# Altium integrated library Micron Memory PSRAM-CellularRAM.IntLib: 9 symbols (part 2 of 2)
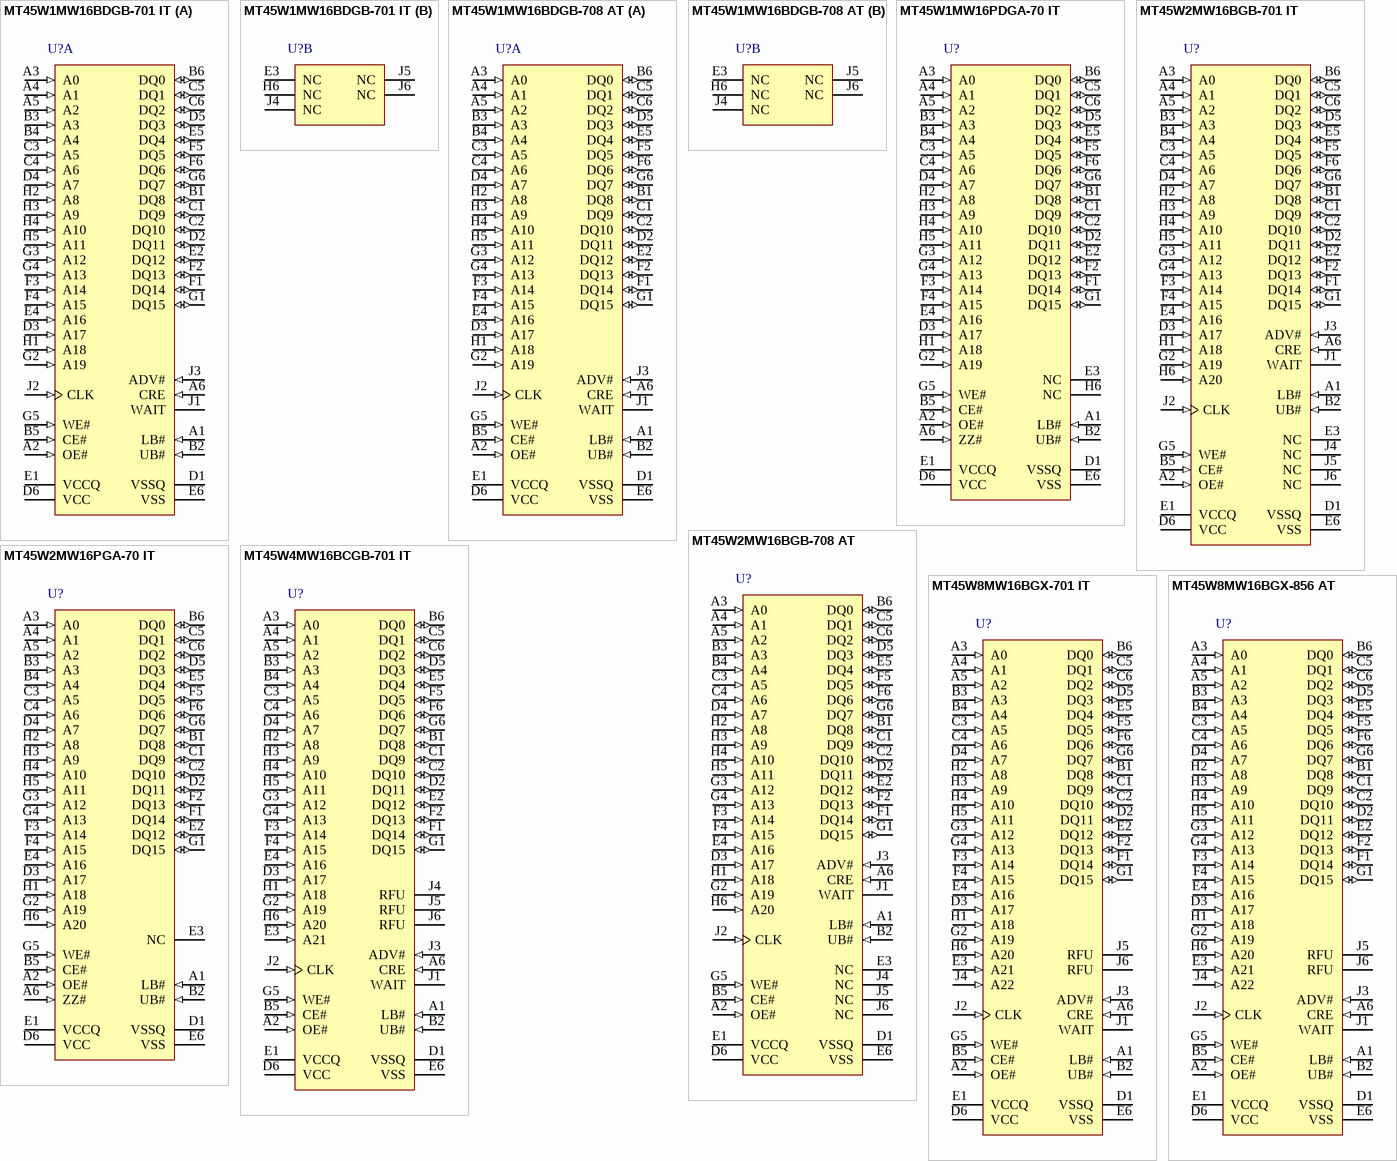
[diagram p1: symbols MT45W1MW16BDGB-701 IT to MT45W8MW16BGX-856 AT]

## MT45W4MW16BCGB-701 IT
designator U?
64Mb PSRAM Celluar RAM, 4Mb x 16, 70ns, 1.7V - 3.3V, -40 to 85 degC, 54-Ball VFBGA, Pb-Free; Manufacturer: Micron; PartNumber: MT45W4MW16BCGB-701 IT; Core Voltage: 1.7V-1.95V; Op. Temp.: -40C to +85C; Read/Write Mode: Async/Page/Burst; DatasheetVersion: Rev.F; PackageVersion: Rev.F; PackageReference: MICT-GB-54; PackageDescription: 54-Ball Very Thin Profile Fine-Pitch Ball Grid Array, 8 x 6 mm, Pitch 0.75 mm; Access Time: 70ns; Density: 64Mb; Depth: 4Mb; I/O Voltage: 1.7V-3.3V; Package: VFBGA; Part Status: Production; Pin Count: 54-ball; RoHS: Green; Width: x16; Mounting Technology: Surface Mount; ComponentLink1Description: Manufacturer URL; ComponentLink1URL: http://www.micron.com/; ComponentLink2Description: Datasheet; ComponentLink2URL: http://www.micron.com/~/media/Documents/Products/Data%20Sheet/DRAM/Mobile%20DRAM/PSRAM/64Mb_burst_cr1_5_p25z.pdf; ComponentLink3Description: Package Specification; ComponentLink3URL: http://www.micron.com/~/media/Documents/Products/Data%20Sheet/DRAM/Mobile%20DRAM/PSRAM/64Mb_burst_cr1_5_p25z.pdf
footprint MICT-GB-54 (BGA, 54-Balls, Body 8x6mm, Pitch 0.75mm)
pins: A1 LB# (in) "Lower byte enable. DQ[7:0]", A2 OE# (in) "Output enable: Enables the output buffers when LOW. When OE# is HIGH, the  output buffers are disabled.", A3 A0 (in) "Address inputs: Inputs for addresses during READ and WRITE operations.Addresses are internally latched during READ and WRITE cycles. The address lines are also used to define the value to be loaded into the BCR or the RCR.", A4 A1 (in) "Address inputs: Inputs for addresses during READ and WRITE operations.Addresses are internally latched during READ and WRITE cycles. The address lines are also used to define the value to be loaded into the BCR or the RCR.", A5 A2 (in) "Address inputs: Inputs for addresses during READ and WRITE operations.Addresses are internally latched during READ and WRITE cycles. The address lines are also used to define the value to be loaded into the BCR or the RCR.", A6 CRE (in) "Control register enable: When CRE is HIGH, WRITE operations load the RCR or BCR, and READ operations access the RCR, BCR, or DIDR.", B1 DQ8 (io) "Data inputs/outputs.", B2 UB# (in) "Upper byte enable. DQ[15:8]", B3 A3 (in) "Address inputs: Inputs for addresses during READ and WRITE operations.Addresses are internally latched during READ and WRITE cycles. The address lines are also used to define the value to be loaded into the BCR or the RCR.", B4 A4 (in) "Address inputs: Inputs for addresses during READ and WRITE operations.Addresses are internally latched during READ and WRITE cycles. The address lines are also used to define the value to be loaded into the BCR or the RCR.", B5 CE# (in) "Chip enable: Activates the device when LOW. When CE# is HIGH, the device is disabled and goes into standby or DPD mode.", B6 DQ0 (io) "Data inputs/outputs.", C1 DQ9 (io) "Data inputs/outputs.", C2 DQ10 (io) "Data inputs/outputs.", C3 A5 (in) "Address inputs: Inputs for addresses during READ and WRITE operations.Addresses are internally latched during READ and WRITE cycles. The address lines are also used to define the value to be loaded into the BCR or the RCR.", C4 A6 (in) "Address inputs: Inputs for addresses during READ and WRITE operations.Addresses are internally latched during READ and WRITE cycles. The address lines are also used to define the value to be loaded into the BCR or the RCR.", C5 DQ1 (io) "Data inputs/outputs.", C6 DQ2 (io) "Data inputs/outputs.", D1 VSSQ (power) "VSSQ must be connected to ground.", D2 DQ11 (io) "Data inputs/outputs.", D3 A17 (in) "Address inputs: Inputs for addresses during READ and WRITE operations.Addresses are internally latched during READ and WRITE cycles. The address lines are also used to define the value to be loaded into the BCR or the RCR.", D4 A7 (in) "Address inputs: Inputs for addresses during READ and WRITE operations.Addresses are internally latched during READ and WRITE cycles. The address lines are also used to define the value to be loaded into the BCR or the RCR.", D5 DQ3 (io) "Data inputs/outputs.", D6 VCC (power) "Device power supply (1.7-1.95V): Power supply for device core operation.", E1 VCCQ (power) "I/O power supply (1.7-3.3V): Power supply for input/output buffers.", E2 DQ12 (io) "Data inputs/outputs.", E3 A21 (in) "Address inputs: Inputs for addresses during READ and WRITE operations.Addresses are internally latched during READ and WRITE cycles. The address lines are also used to define the value to be loaded into the BCR or the RCR.", E4 A16 (in) "Address inputs: Inputs for addresses during READ and WRITE operations.Addresses are internally latched during READ and WRITE cycles. The address lines are also used to define the value to be loaded into the BCR or the RCR.", E5 DQ4 (io) "Data inputs/outputs.", E6 VSS (power) "VSS must be connected to ground.", F1 DQ14 (io) "Data inputs/outputs.", F2 DQ13 (io) "Data inputs/outputs.", F3 A14 (in) "Address inputs: Inputs for addresses during READ and WRITE operations.Addresses are internally latched during READ and WRITE cycles. The address lines are also used to define the value to be loaded into the BCR or the RCR.", F4 A15 (in) "Address inputs: Inputs for addresses during READ and WRITE operations.Addresses are internally latched during READ and WRITE cycles. The address lines are also used to define the value to be loaded into the BCR or the RCR.", F5 DQ5 (io) "Data inputs/outputs.", F6 DQ6 (io) "Data inputs/outputs.", G1 DQ15 (io) "Data inputs/outputs.", G2 A19 (in) "Address inputs: Inputs for addresses during READ and WRITE operations.Addresses are internally latched during READ and WRITE cycles. The address lines are also used to define the value to be loaded into the BCR or the RCR.", G3 A12 (in) "Address inputs: Inputs for addresses during READ and WRITE operations.Addresses are internally latched during READ and WRITE cycles. The address lines are also used to define the value to be loaded into the BCR or the RCR.", G4 A13 (in) "Address inputs: Inputs for addresses during READ and WRITE operations.Addresses are internally latched during READ and WRITE cycles. The address lines are also used to define the value to be loaded into the BCR or the RCR.", G5 WE# (in) "Write enable: Determines whether a given cycle is a WRITE cycle. If WE# is LOW, the cycle is a WRITE either to a configuration register or to the memory array.", G6 DQ7 (io) "Data inputs/outputs.", H1 A18 (in) "Address inputs: Inputs for addresses during READ and WRITE operations.Addresses are internally latched during READ and WRITE cycles. The address lines are also used to define the value to be loaded into the BCR or the RCR.", H2 A8 (in) "Address inputs: Inputs for addresses during READ and WRITE operations.Addresses are internally latched during READ and WRITE cycles. The address lines are also used to define the value to be loaded into the BCR or the RCR.", H3 A9 (in) "Address inputs: Inputs for addresses during READ and WRITE operations.Addresses are internally latched during READ and WRITE cycles. The address lines are also used to define the value to be loaded into the BCR or the RCR.", H4 A10 (in) "Address inputs: Inputs for addresses during READ and WRITE operations.Addresses are internally latched during READ and WRITE cycles. The address lines are also used to define the value to be loaded into the BCR or the RCR.", H5 A11 (in) "Address inputs: Inputs for addresses during READ and WRITE operations.Addresses are internally latched during READ and WRITE cycles. The address lines are also used to define the value to be loaded into the BCR or the RCR.", H6 A20 (in) "Address inputs: Inputs for addresses during READ and WRITE operations.Addresses are internally latched during READ and WRITE cycles. The address lines are also used to define the value to be loaded into the BCR or the RCR.", J1 WAIT (hiz) "Wait: Provides data-valid feedback during burst READ and WRITE operations. The signal is gated by CE#. WAIT is used to arbitrate collisions between refresh and READ/WRITE operations. WAIT is asserted at the end of a row (See Datasheet)", J2 CLK (in) "Clock: Synchronizes the memory to the system operating frequency during synchronous operations. When configured for synchronous operation, the address is latched on the first rising CLK edge when ADV# is active. CLK must be (See Datasheet)", J3 ADV# (in) "Address valid: Indicates that a valid address is present on the address inputs.Addresses can be latched on the rising edge of ADV# during asynchronous READ and WRITE operations. ADV# can be held LOW during asynchronous READ (See Datasheet)", J4 RFU "Reserved for future use.", J5 RFU "Reserved for future use.", J6 RFU "Reserved for future use."

## MT45W8MW16BGX-701 IT
designator U?
128Mb PSRAM Celluar RAM, 8Mb x 16, 70ns, 1.7V - 3.6V, -40 to 85 degC, 54-Ball VFBGA, Pb-Free; Manufacturer: Micron; PartNumber: MT45W8MW16BGX-701 IT; Core Voltage: 1.7V-1.95V; Op. Temp.: -40C to +85C; Read/Write Mode: Async/Page/Burst; DatasheetVersion: Rev. H; PackageVersion: Rev.H; PackageReference: MICT-GX-54; PackageDescription: 54-Ball Very Thin Profile Fine-Pitch Ball Grid Array, 10 x 8 mm, Pitch 0.75 mm; Access Time: 70ns; Density: 128Mb; Depth: 8Mb; I/O Voltage: 1.7V-3.6V; Package: VFBGA; Part Status: Production; Pin Count: 54-ball; RoHS: Green; Width: x16; Mounting Technology: Surface Mount; ComponentLink1Description: Manufacturer URL; ComponentLink1URL: http://www.micron.com/; ComponentLink2Description: Datasheet; ComponentLink2URL: http://www.micron.com/~/media/Documents/Products/Data%20Sheet/DRAM/Mobile%20DRAM/PSRAM/128mb_burst_cr1_5_p26z.pdf; ComponentLink3Description: Package Specification; ComponentLink3URL: http://www.micron.com/~/media/Documents/Products/Data%20Sheet/DRAM/Mobile%20DRAM/PSRAM/128mb_burst_cr1_5_p26z.pdf
footprint MICT-GX-54 (BGA, 54-Balls, Body 10x8mm, Pitch 0.75mm)
pins: A1 LB# (in) "Lower byte enable. DQ[7:0]", A2 OE# (in) "Output enable: Enables the output buffers when LOW. When OE# is HIGH,the output buffers are disabled.", A3 A0 (in) "Address inputs: Inputs for addresses during READ and WRITE operations.Addresses are internally latched during READ and WRITE cycles. The address lines are also used to define the value to be loaded into the BCR or the RCR.", A4 A1 (in) "Address inputs: Inputs for addresses during READ and WRITE operations.Addresses are internally latched during READ and WRITE cycles. The address lines are also used to define the value to be loaded into the BCR or the RCR.", A5 A2 (in) "Address inputs: Inputs for addresses during READ and WRITE operations.Addresses are internally latched during READ and WRITE cycles. The address lines are also used to define the value to be loaded into the BCR or the RCR.", A6 CRE (in) "Control register enable: When CRE is HIGH, WRITE operations load the RCR or BCR, and READ operations access the RCR, BCR, or DIDR.", B1 DQ8 (io) "Data inputs/outputs.", B2 UB# (in) "Upper byte enable. DQ[15:8]", B3 A3 (in) "Address inputs: Inputs for addresses during READ and WRITE operations.Addresses are internally latched during READ and WRITE cycles. The address lines are also used to define the value to be loaded into the BCR or the RCR.", B4 A4 (in) "Address inputs: Inputs for addresses during READ and WRITE operations.Addresses are internally latched during READ and WRITE cycles. The address lines are also used to define the value to be loaded into the BCR or the RCR.", B5 CE# (in) "Chip enable: Activates the device when LOW. When CE# is HIGH, the device is disabled and goes into standby or deep power-down mode.", B6 DQ0 (io) "Data inputs/outputs.", C1 DQ9 (io) "Data inputs/outputs.", C2 DQ10 (io) "Data inputs/outputs.", C3 A5 (in) "Address inputs: Inputs for addresses during READ and WRITE operations.Addresses are internally latched during READ and WRITE cycles. The address lines are also used to define the value to be loaded into the BCR or the RCR.", C4 A6 (in) "Address inputs: Inputs for addresses during READ and WRITE operations.Addresses are internally latched during READ and WRITE cycles. The address lines are also used to define the value to be loaded into the BCR or the RCR.", C5 DQ1 (io) "Data inputs/outputs.", C6 DQ2 (io) "Data inputs/outputs.", D1 VSSQ (power) "VSSQ must be connected to ground.", D2 DQ11 (io) "Data inputs/outputs.", D3 A17 (in) "Address inputs: Inputs for addresses during READ and WRITE operations.Addresses are internally latched during READ and WRITE cycles. The address lines are also used to define the value to be loaded into the BCR or the RCR.", D4 A7 (in) "Address inputs: Inputs for addresses during READ and WRITE operations.Addresses are internally latched during READ and WRITE cycles. The address lines are also used to define the value to be loaded into the BCR or the RCR.", D5 DQ3 (io) "Data inputs/outputs.", D6 VCC (power) "Device power supply: (1.7-1.95V) Power supply for device core operation.", E1 VCCQ (power) "I/O power supply: (1.7-3.6V) Power supply for input/output buffers.", E2 DQ12 (io) "Data inputs/outputs.", E3 A21 (in) "Address inputs: Inputs for addresses during READ and WRITE operations.Addresses are internally latched during READ and WRITE cycles. The address lines are also used to define the value to be loaded into the BCR or the RCR.", E4 A16 (in) "Address inputs: Inputs for addresses during READ and WRITE operations.Addresses are internally latched during READ and WRITE cycles. The address lines are also used to define the value to be loaded into the BCR or the RCR.", E5 DQ4 (io) "Data inputs/outputs.", E6 VSS (power) "VSS must be connected to ground.", F1 DQ14 (io) "Data inputs/outputs.", F2 DQ13 (io) "Data inputs/outputs.", F3 A14 (in) "Address inputs: Inputs for addresses during READ and WRITE operations.Addresses are internally latched during READ and WRITE cycles. The address lines are also used to define the value to be loaded into the BCR or the RCR.", F4 A15 (in) "Address inputs: Inputs for addresses during READ and WRITE operations.Addresses are internally latched during READ and WRITE cycles. The address lines are also used to define the value to be loaded into the BCR or the RCR.", F5 DQ5 (io) "Data inputs/outputs.", F6 DQ6 (io) "Data inputs/outputs.", G1 DQ15 (io) "Data inputs/outputs.", G2 A19 (in) "Address inputs: Inputs for addresses during READ and WRITE operations.Addresses are internally latched during READ and WRITE cycles. The address lines are also used to define the value to be loaded into the BCR or the RCR.", G3 A12 (in) "Address inputs: Inputs for addresses during READ and WRITE operations.Addresses are internally latched during READ and WRITE cycles. The address lines are also used to define the value to be loaded into the BCR or the RCR.", G4 A13 (in) "Address inputs: Inputs for addresses during READ and WRITE operations.Addresses are internally latched during READ and WRITE cycles. The address lines are also used to define the value to be loaded into the BCR or the RCR.", G5 WE# (in) "Write enable: Determines if a given cycle is a WRITE cycle. If WE# is LOW,the cycle is a WRITE to either a configuration register or to the memory array.", G6 DQ7 (io) "Data inputs/outputs.", H1 A18 (in) "Address inputs: Inputs for addresses during READ and WRITE operations.Addresses are internally latched during READ and WRITE cycles. The address lines are also used to define the value to be loaded into the BCR or the RCR.", H2 A8 (in) "Address inputs: Inputs for addresses during READ and WRITE operations.Addresses are internally latched during READ and WRITE cycles. The address lines are also used to define the value to be loaded into the BCR or the RCR.", H3 A9 (in) "Address inputs: Inputs for addresses during READ and WRITE operations.Addresses are internally latched during READ and WRITE cycles. The address lines are also used to define the value to be loaded into the BCR or the RCR.", H4 A10 (in) "Address inputs: Inputs for addresses during READ and WRITE operations.Addresses are internally latched during READ and WRITE cycles. The address lines are also used to define the value to be loaded into the BCR or the RCR.", H5 A11 (in) "Address inputs: Inputs for addresses during READ and WRITE operations.Addresses are internally latched during READ and WRITE cycles. The address lines are also used to define the value to be loaded into the BCR or the RCR.", H6 A20 (in) "Address inputs: Inputs for addresses during READ and WRITE operations.Addresses are internally latched during READ and WRITE cycles. The address lines are also used to define the value to be loaded into the BCR or the RCR.", J1 WAIT (hiz) "Wait: Provides data-valid feedback during burst READ and WRITE operations. The signal is gated by CE#. WAIT is used to arbitrate collisions between refresh and READ/WRITE operations. WAIT is also asserted at the end of a row (See Datasheet)", J2 CLK (in) "Clock: Synchronizes the memory to the system operating frequency during synchronous operations. When configured for synchronous operation, the address is latched on the first rising CLK edge when ADV# is active. CLK is (See Datasheet)", J3 ADV# (in) "Address valid: Indicates that a valid address is present on the address inputs. Addresses can be latched on the rising edge of ADV# during asynchronous READ and WRITE operations. ADV# can be held LOW during asynchronous READ (See Datasheet)", J4 A22 (in) "Address inputs: Inputs for addresses during READ and WRITE operations.Addresses are internally latched during READ and WRITE cycles. The address lines are also used to define the value to be loaded into the BCR or the RCR.", J5 RFU "Reserved for future use.", J6 RFU "Reserved for future use."

## MT45W8MW16BGX-856 AT
designator U?
128Mb PSRAM Celluar RAM, 8Mb x 16, 85ns, 1.7V - 3.6V, -40 to 105 degC, 54-Ball VFBGA, Pb-Free; Manufacturer: Micron; PartNumber: MT45W8MW16BGX-856 AT; Core Voltage: 1.7V-1.95V; Op. Temp.: -40C to +105C; Read/Write Mode: Async/Page/Burst; DatasheetVersion: Rev. H; PackageVersion: Rev.H; PackageReference: MICT-GX-54; PackageDescription: 54-Ball Very Thin Profile Fine-Pitch Ball Grid Array, 10 x 8 mm, Pitch 0.75 mm; Access Time: 85ns; Density: 128Mb; Depth: 8Mb; I/O Voltage: 1.7V-3.6V; Package: VFBGA; Part Status: Production; Pin Count: 54-ball; RoHS: Green; Width: x16; Mounting Technology: Surface Mount; ComponentLink1Description: Manufacturer URL; ComponentLink1URL: http://www.micron.com/; ComponentLink2Description: Datasheet; ComponentLink2URL: http://www.micron.com/~/media/Documents/Products/Data%20Sheet/DRAM/Mobile%20DRAM/PSRAM/128mb_burst_cr1_5_p26z.pdf; ComponentLink3Description: Package Specification; ComponentLink3URL: http://www.micron.com/~/media/Documents/Products/Data%20Sheet/DRAM/Mobile%20DRAM/PSRAM/128mb_burst_cr1_5_p26z.pdf
footprint MICT-GX-54 (BGA, 54-Balls, Body 10x8mm, Pitch 0.75mm)
pins: A1 LB# (in) "Lower byte enable. DQ[7:0]", A2 OE# (in) "Output enable: Enables the output buffers when LOW. When OE# is HIGH,the output buffers are disabled.", A3 A0 (in) "Address inputs: Inputs for addresses during READ and WRITE operations.Addresses are internally latched during READ and WRITE cycles. The address lines are also used to define the value to be loaded into the BCR or the RCR.", A4 A1 (in) "Address inputs: Inputs for addresses during READ and WRITE operations.Addresses are internally latched during READ and WRITE cycles. The address lines are also used to define the value to be loaded into the BCR or the RCR.", A5 A2 (in) "Address inputs: Inputs for addresses during READ and WRITE operations.Addresses are internally latched during READ and WRITE cycles. The address lines are also used to define the value to be loaded into the BCR or the RCR.", A6 CRE (in) "Control register enable: When CRE is HIGH, WRITE operations load the RCR or BCR, and READ operations access the RCR, BCR, or DIDR.", B1 DQ8 (io) "Data inputs/outputs.", B2 UB# (in) "Upper byte enable. DQ[15:8]", B3 A3 (in) "Address inputs: Inputs for addresses during READ and WRITE operations.Addresses are internally latched during READ and WRITE cycles. The address lines are also used to define the value to be loaded into the BCR or the RCR.", B4 A4 (in) "Address inputs: Inputs for addresses during READ and WRITE operations.Addresses are internally latched during READ and WRITE cycles. The address lines are also used to define the value to be loaded into the BCR or the RCR.", B5 CE# (in) "Chip enable: Activates the device when LOW. When CE# is HIGH, the device is disabled and goes into standby or deep power-down mode.", B6 DQ0 (io) "Data inputs/outputs.", C1 DQ9 (io) "Data inputs/outputs.", C2 DQ10 (io) "Data inputs/outputs.", C3 A5 (in) "Address inputs: Inputs for addresses during READ and WRITE operations.Addresses are internally latched during READ and WRITE cycles. The address lines are also used to define the value to be loaded into the BCR or the RCR.", C4 A6 (in) "Address inputs: Inputs for addresses during READ and WRITE operations.Addresses are internally latched during READ and WRITE cycles. The address lines are also used to define the value to be loaded into the BCR or the RCR.", C5 DQ1 (io) "Data inputs/outputs.", C6 DQ2 (io) "Data inputs/outputs.", D1 VSSQ (power) "VSSQ must be connected to ground.", D2 DQ11 (io) "Data inputs/outputs.", D3 A17 (in) "Address inputs: Inputs for addresses during READ and WRITE operations.Addresses are internally latched during READ and WRITE cycles. The address lines are also used to define the value to be loaded into the BCR or the RCR.", D4 A7 (in) "Address inputs: Inputs for addresses during READ and WRITE operations.Addresses are internally latched during READ and WRITE cycles. The address lines are also used to define the value to be loaded into the BCR or the RCR.", D5 DQ3 (io) "Data inputs/outputs.", D6 VCC (power) "Device power supply: (1.7-1.95V) Power supply for device core operation.", E1 VCCQ (power) "I/O power supply: (1.7-3.6V) Power supply for input/output buffers.", E2 DQ12 (io) "Data inputs/outputs.", E3 A21 (in) "Address inputs: Inputs for addresses during READ and WRITE operations.Addresses are internally latched during READ and WRITE cycles. The address lines are also used to define the value to be loaded into the BCR or the RCR.", E4 A16 (in) "Address inputs: Inputs for addresses during READ and WRITE operations.Addresses are internally latched during READ and WRITE cycles. The address lines are also used to define the value to be loaded into the BCR or the RCR.", E5 DQ4 (io) "Data inputs/outputs.", E6 VSS (power) "VSS must be connected to ground.", F1 DQ14 (io) "Data inputs/outputs.", F2 DQ13 (io) "Data inputs/outputs.", F3 A14 (in) "Address inputs: Inputs for addresses during READ and WRITE operations.Addresses are internally latched during READ and WRITE cycles. The address lines are also used to define the value to be loaded into the BCR or the RCR.", F4 A15 (in) "Address inputs: Inputs for addresses during READ and WRITE operations.Addresses are internally latched during READ and WRITE cycles. The address lines are also used to define the value to be loaded into the BCR or the RCR.", F5 DQ5 (io) "Data inputs/outputs.", F6 DQ6 (io) "Data inputs/outputs.", G1 DQ15 (io) "Data inputs/outputs.", G2 A19 (in) "Address inputs: Inputs for addresses during READ and WRITE operations.Addresses are internally latched during READ and WRITE cycles. The address lines are also used to define the value to be loaded into the BCR or the RCR.", G3 A12 (in) "Address inputs: Inputs for addresses during READ and WRITE operations.Addresses are internally latched during READ and WRITE cycles. The address lines are also used to define the value to be loaded into the BCR or the RCR.", G4 A13 (in) "Address inputs: Inputs for addresses during READ and WRITE operations.Addresses are internally latched during READ and WRITE cycles. The address lines are also used to define the value to be loaded into the BCR or the RCR.", G5 WE# (in) "Write enable: Determines if a given cycle is a WRITE cycle. If WE# is LOW,the cycle is a WRITE to either a configuration register or to the memory array.", G6 DQ7 (io) "Data inputs/outputs.", H1 A18 (in) "Address inputs: Inputs for addresses during READ and WRITE operations.Addresses are internally latched during READ and WRITE cycles. The address lines are also used to define the value to be loaded into the BCR or the RCR.", H2 A8 (in) "Address inputs: Inputs for addresses during READ and WRITE operations.Addresses are internally latched during READ and WRITE cycles. The address lines are also used to define the value to be loaded into the BCR or the RCR.", H3 A9 (in) "Address inputs: Inputs for addresses during READ and WRITE operations.Addresses are internally latched during READ and WRITE cycles. The address lines are also used to define the value to be loaded into the BCR or the RCR.", H4 A10 (in) "Address inputs: Inputs for addresses during READ and WRITE operations.Addresses are internally latched during READ and WRITE cycles. The address lines are also used to define the value to be loaded into the BCR or the RCR.", H5 A11 (in) "Address inputs: Inputs for addresses during READ and WRITE operations.Addresses are internally latched during READ and WRITE cycles. The address lines are also used to define the value to be loaded into the BCR or the RCR.", H6 A20 (in) "Address inputs: Inputs for addresses during READ and WRITE operations.Addresses are internally latched during READ and WRITE cycles. The address lines are also used to define the value to be loaded into the BCR or the RCR.", J1 WAIT (hiz) "Wait: Provides data-valid feedback during burst READ and WRITE operations. The signal is gated by CE#. WAIT is used to arbitrate collisions between refresh and READ/WRITE operations. WAIT is also asserted at the end of a row (See Datasheet)", J2 CLK (in) "Clock: Synchronizes the memory to the system operating frequency during synchronous operations. When configured for synchronous operation, the address is latched on the first rising CLK edge when ADV# is active. CLK is (See Datasheet)", J3 ADV# (in) "Address valid: Indicates that a valid address is present on the address inputs. Addresses can be latched on the rising edge of ADV# during asynchronous READ and WRITE operations. ADV# can be held LOW during asynchronous READ (See Datasheet)", J4 A22 (in) "Address inputs: Inputs for addresses during READ and WRITE operations.Addresses are internally latched during READ and WRITE cycles. The address lines are also used to define the value to be loaded into the BCR or the RCR.", J5 RFU "Reserved for future use.", J6 RFU "Reserved for future use."